# Altium footprint library PcbLib.PcbLib: 14 footprints
Each footprint in its own frame and in the unit in brackets; x right, y up, seen from the top. Pads: shape width x height; smd on the part's side, far side on the other; paste and mask are expansions set on the pad; w line width, h text height; cw(c..) or ccw(c..) is an arc to the next point about the centre after c.
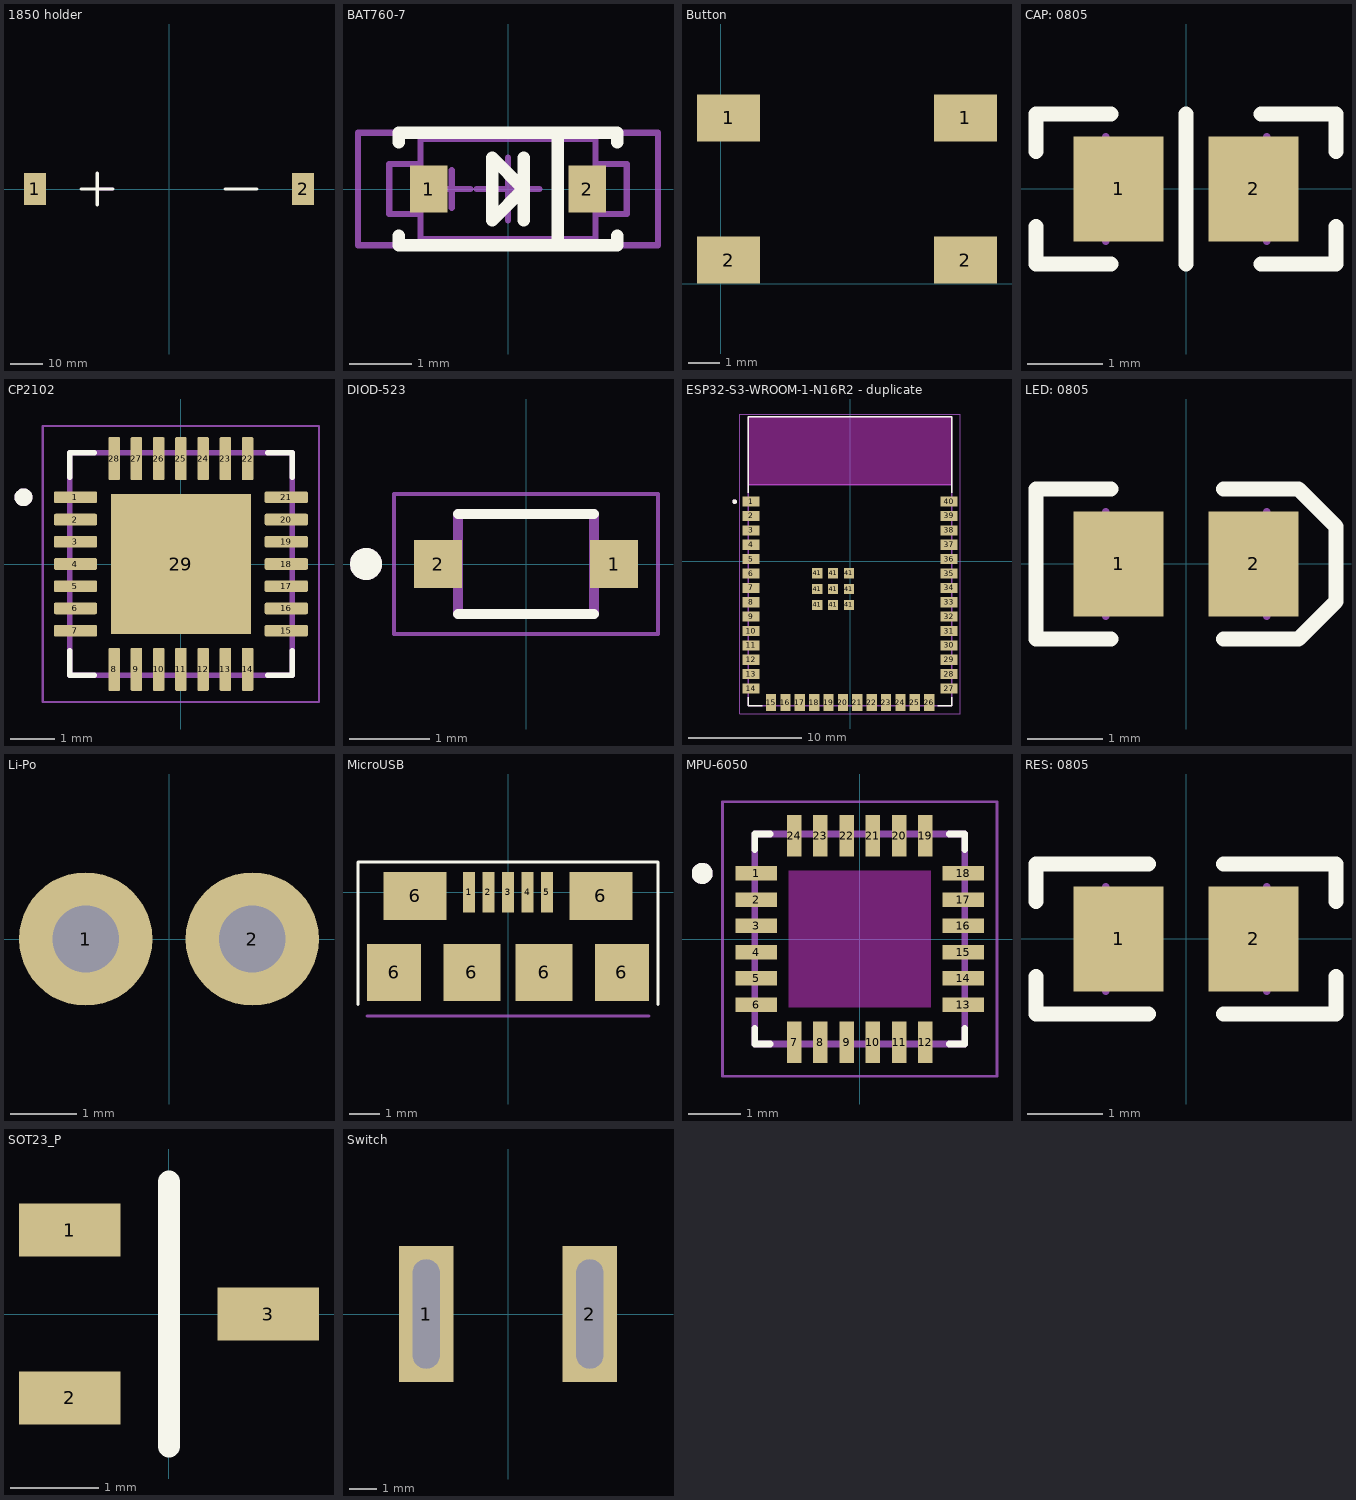
[diagram p0: the footprints below, top view; thin cyan lines are the x and y axes]

## 1850 holder [mm]
pads (2):
  rect 7x10 smd: 1(-42,0) 2(42,0)
Top Overlay:
  lines w1: -27.5,0 -17.5,0 ; -22.5,-5 -22.5,5 ; 17.5,0 27.5,0
Mechanical 1:
  lines w1: -22.5,0 -17.5,0
3D body "18650_LI-ON_Battery_Holder_1042P.STEP": height 14.86, standoff -3.43, extent -43.279,-10.325 43.279,10.325

## BAT760-7 [mm] "КД-36"
height 2
pads (2):
  rect 0.6x0.75 smd: 1(-1.27,0) 2(1.27,0)
Top Overlay:
  lines w0.2: -1.75,-0.75 -1.75,-0.9 1.75,-0.9 1.75,-0.75 ; -1.75,0.75 -1.75,0.9 1.75,0.9 1.75,0.75 ; 0.25,-0.5 0.25,0.5 ; 0.8,-0.9 0.8,0.9 ; -0.25,-0.5 -0.25,0.5 0.25,0 -0.25,-0.5
Mechanical 7:
  lines w0.05: -2.4,-0.9 2.4,-0.9 2.4,0.9 -2.4,0.9 -2.4,-0.9
Mechanical 13:
  lines w0.1: -1.4,-0.4 -1.9,-0.4 -1.9,0.4 -1.4,0.4 ; -1.2,0 -0.6,0 ; -0.9,-0.3 -0.9,0.3 ; 1.4,-0.4 1.9,-0.4 1.9,0.4 1.4,0.4 ; -1.4,-0.8 1.4,-0.8 1.4,0.8 -1.4,0.8 -1.4,-0.8
Mechanical 15:
  lines w0.1: -0.5,0 0.5,0 ; 0,-0.5 0,0.5 ; -2.4,-0.9 2.4,-0.9 2.4,0.9 -2.4,0.9 -2.4,-0.9
3D body "SC-76A.stp": height 1.15, standoff 0, extent -1.35,-0.725 1.35,0.725

## Button [mm]
pads (4):
  rect 2x1.5 smd: 1(0.25,5.25) 1(7.75,5.25) 2(0.25,0.75) 2(7.75,0.75)
3D body "TS6-SMT_H-5.0.step": height 5, standoff 0, extent 0,0 8,6

## CAP: 0805 [mm] "Chip Resistor, Body 2.0x1.2mm, IPC Medium Density"
height 0.7
pads (2):
  rect 1.2x1.4 smd: 1(-0.9,0) 2(0.9,0)
Top Overlay:
  lines w0.2: -2.003,-1 -1,-1 ; -2.003,1 -1,1 ; -2,-1 -2,-0.5 ; -2,0.5 -2,1 ; 0,-1 0,1 ; 1,-1 2,-1 2,-0.5 ; 1,1 2,1 2,0.5
Mechanical 13:
  lines w0.1: -1.075,-0.7 -1.075,0.7 ; 1.075,-0.7 1.075,0.7
3D body "L_0805.stp": height 0.61, standoff 0.01, extent -1,-0.625 1,0.625

## CP2102 [mm]
pads (29):
  rrect25% 0.97x0.26 smd: 1(-2.37,1.5) 2(-2.37,1) 3(-2.37,0.5) 4(-2.37,0) 5(-2.37,-0.5) 6(-2.37,-1) 7(-2.37,-1.5) 15(2.37,-1.5) 16(2.37,-1) 17(2.37,-0.5) 18(2.37,0) 19(2.37,0.5) 20(2.37,1) 21(2.37,1.5)
  rrect25% 0.26x0.97 smd: 8(-1.5,-2.37) 9(-1,-2.37) 10(-0.5,-2.37) 11(0,-2.37) 12(0.5,-2.37) 13(1,-2.37) 14(1.5,-2.37) 22(1.5,2.37) 23(1,2.37) 24(0.5,2.37) 25(0,2.37) 26(-0.5,2.37) 27(-1,2.37) 28(-1.5,2.37)
  rect 3.15x3.15 smd paste-0.575: 29(0,0)
Top Overlay:
  circle w0.2: c-3.54,1.5 r0.1
  lines w0.127: -2.5,-1.95 -2.5,-2.5 -1.95,-2.5 ; -2.5,1.95 -2.5,2.5 -1.95,2.5 ; 1.95,-2.5 2.5,-2.5 2.5,-1.95 ; 1.95,2.5 2.5,2.5 2.5,1.95
Mechanical 13:
  circle w0.2: c-3.54,1.5 r0.1
  lines w0.127: -2.5,-2.5 2.5,-2.5 2.5,2.5 -2.5,2.5 -2.5,-2.5
Mechanical 15:
  lines w0.05: -3.105,-3.105 3.105,-3.105 3.105,3.105 -3.105,3.105 -3.105,-3.105
3D body "CP2102.STEP": height 1, standoff 0, extent -2.5,-2.5 2.5,2.5

## DIOD-523 [mm]
pads (2):
  rect 0.6x0.6 smd paste-0.05: 1(1.1,0) 2(-1.1,0)
Top Overlay:
  circle w0.2: c-2,0 r0.1
  lines w0.127: -0.85,-0.625 0.85,-0.625 ; -0.85,0.625 0.85,0.625
Mechanical 13:
  circle w0.2: c-2,0 r0.1
  lines w0.127: -0.85,-0.625 -0.85,0.625 0.85,0.625 0.85,-0.625 -0.85,-0.625
Mechanical 15:
  lines w0.05: -1.65,-0.875 -1.65,0.875 1.65,0.875 1.65,-0.875 -1.65,-0.875
3D body "step_temp.STEP": height 1.1, standoff 0, extent -1.25,-0.625 1.25,0.625

## ESP32-S3-WROOM-1-N16R2 - duplicate [mm]
height 3.25
pads (49):
  rect 1.5x0.9 smd: 1(-8.75,5.26) 2(-8.75,3.99) 3(-8.75,2.72) 4(-8.75,1.45) 5(-8.75,0.18) 6(-8.75,-1.09) 7(-8.75,-2.36) 8(-8.75,-3.63) 9(-8.75,-4.9) 10(-8.75,-6.17) 11(-8.75,-7.44) 12(-8.75,-8.71) 13(-8.75,-9.98) 14(-8.75,-11.25) 27(8.75,-11.25) 28(8.75,-9.98) 29(8.75,-8.71) 30(8.75,-7.44) 31(8.75,-6.17) 32(8.75,-4.9) 33(8.75,-3.63) 34(8.75,-2.36) 35(8.75,-1.09) 36(8.75,0.18) 37(8.75,1.45) 38(8.75,2.72) 39(8.75,3.99) 40(8.75,5.26)
  rect 0.9x1.5 smd: 15(-6.985,-12.5) 16(-5.715,-12.5) 17(-4.445,-12.5) 18(-3.175,-12.5) 19(-1.905,-12.5) 20(-0.635,-12.5) 21(0.635,-12.5) 22(1.905,-12.5) 23(3.175,-12.5) 24(4.445,-12.5) 25(5.715,-12.5) 26(6.985,-12.5)
  rect 0.9x0.9 smd: 41(-2.9,-3.86) 41(-2.9,-2.46) 41(-2.9,-1.06) 41(-1.5,-3.86) 41(-1.5,-2.46) 41(-1.5,-1.06) 41(-0.1,-3.86) 41(-0.1,-2.46) 41(-0.1,-1.06)
Top Overlay:
  circle w0.2: c-10.2,5.26 r0.1
  lines w0.127: -9,-12.02 -9,-12.75 -7.755,-12.75 ; -9,6.03 -9,12.75 9,12.75 9,6.03 ; 7.755,-12.75 9,-12.75 9,-12.02
Keep-Out Layer:
  region: 9,6.75 -9,6.75 -9,12.75 9,12.75
  region: 9,6.75 -9,6.75 -9,12.75 9,12.75
Mechanical 13:
  circle w0.2: c-10.2,5.26 r0.1
  lines w0.127: -9,6.75 9,6.75 ; -9,6.75 -9,12.75 9,12.75 9,6.75 ; -9,6.75 -9,-12.75 9,-12.75 9,6.75
  text "ANTENNA" at -4.5,9.5 h1.27
Mechanical 15:
  lines w0.05: -9.75,-13.5 9.75,-13.5 9.75,13 -9.75,13 -9.75,-13.5
3D body "step_temp.STEP": height 3.25, standoff 0, extent -9,-12.75 9,12.75

## LED: 0805 [mm] "Chip Resistor, Body 2.0x1.2mm, IPC Medium Density"
height 0.7
pads (2):
  rect 1.2x1.4 smd: 1(-0.9,0) 2(0.9,0)
Top Overlay:
  lines w0.2: -2.003,-1 -1,-1 ; -2.003,1 -1,1 ; -2,-1 -2,1 ; 0.497,-1 1.5,-1 ; 0.497,1 1.5,1 2,0.5 2,-0.503 ; 1.5,-1 2,-0.5
Mechanical 13:
  lines w0.1: -1.075,-0.7 -1.075,0.7 ; 1.075,-0.7 1.075,0.7
3D body "LED-0805-Green.step": height 0.8, standoff -0.01, extent -1.01,-0.625 1.01,0.625

## Li-Po [mm]
pads (2):
  round 2 hole 1: 1(-1.25,0) 2(1.25,0)
3D body "JST 2.54X2P.step": height 6.87, standoff -3.13, extent -3.77,-3.15 3.77,2.55

## MicroUSB [mm] "SMD, 5 Position, Type B, Micro USB Receptacle"
height 2.7
pads (11):
  rect 0.4x1.35 smd: 1(-1.3,0) 2(-0.65,0) 3(0,0) 4(0.65,0) 5(1.3,0)
  rect 1.8x1.9 smd: 6(-3.8,-2.675) 6(3.8,-2.675)
  rect 2.1x1.6 smd: 6(-3.1,-0.125) 6(3.1,-0.125)
  rect 1.9x1.9 smd: 6(-1.2,-2.675) 6(1.2,-2.675)
Top Overlay:
  lines w0.1: -5,-3.75 -5,1 5,1 5,-3.75
Mechanical 8:
  lines w0.1: -4.7,-4.125 4.7,-4.125
3D body "FCI_10118192.STEP": height 2.74, standoff -0.27, extent -3.956,-5.475 3.956,0.186

## MPU-6050 [mm]
height 0.95
pads (24):
  rect 0.79x0.28 smd: 1(-1.97,1.25) 2(-1.97,0.75) 3(-1.97,0.25) 4(-1.97,-0.25) 5(-1.97,-0.75) 6(-1.97,-1.25) 13(1.97,-1.25) 14(1.97,-0.75) 15(1.97,-0.25) 16(1.97,0.25) 17(1.97,0.75) 18(1.97,1.25)
  rect 0.28x0.79 smd: 7(-1.25,-1.97) 8(-0.75,-1.97) 9(-0.25,-1.97) 10(0.25,-1.97) 11(0.75,-1.97) 12(1.25,-1.97) 19(1.25,1.97) 20(0.75,1.97) 21(0.25,1.97) 22(-0.25,1.97) 23(-0.75,1.97) 24(-1.25,1.97)
Top Overlay:
  circle w0.2: c-3,1.25 r0.1
  lines w0.127: -2,-1.705 -2,-2 -1.705,-2 ; -2,1.705 -2,2 -1.705,2 ; 1.705,-2 2,-2 2,-1.705 ; 1.705,2 2,2 2,1.705
Keep-Out Layer:
  region: 1.35,-1.3 -1.35,-1.3 -1.35,1.3 1.35,1.3
Mechanical 13:
  circle w0.2: c-3,1.25 r0.1
  lines w0.127: -2,-2 2,-2 2,2 -2,2 -2,-2
Mechanical 15:
  lines w0.05: -2.615,-2.615 2.615,-2.615 2.615,2.615 -2.615,2.615 -2.615,-2.615
3D body "step_temp.STEP": height 0.93, standoff -0.02, extent -2,-2 2,2

## RES: 0805 [mm] "Chip Resistor, Body 2.0x1.2mm, IPC Medium Density"
height 0.7
pads (2):
  rect 1.2x1.4 smd: 1(-0.9,0) 2(0.9,0)
Top Overlay:
  lines w0.2: -2.003,-1 -0.503,-1 ; -2.003,1 -0.503,1 ; -2,-1 -2,-0.5 ; -2,0.5 -2,1 ; 0.5,-1 2,-1 2,-0.5 ; 0.5,1 2,1 2,0.5
Mechanical 13:
  lines w0.1: -1.075,-0.7 -1.075,0.7 ; 1.075,-0.7 1.075,0.7
3D body "Resistor smd 0805 1K 1%.step": height 0.5, standoff -0.03, extent -0.993,-0.617 1.008,0.633

## SOT23_P [mm] "SOT23, 3-Leads, Body 2.9x1.3mm, Pitch 0.95mm, Lead Span 2.3mm - Reverse Pinning, IPC Medium Density"
height 1.1
pads (3):
  rect 1.15x0.6 smd: 1(-1.125,0.95) 2(-1.125,-0.95) 3(1.125,0)
Top Overlay:
  lines w0.254: 0,-1.5 0,1.5
3D body "SOT23SMD.stp": height 1, standoff 0, extent -1.3,-1.502 1.15,1.502

## Switch [mm]
pads (2):
  rect 2x5 hole 1 slot 4 at 90 deg: 1(-3,0) 2(3,0)
3D body "PBS-26B_RED.stp": height 5.5, standoff -19.5, extent -9.5,-9.497 9.5,9.497